# Altium footprint library pin1x3.PcbLib: 3 footprints
Each footprint in its own frame and in the unit in brackets; x right, y up, seen from the top. Pads: shape width x height; smd on the part's side, far side on the other; paste and mask are expansions set on the pad; w line width, h text height; cw(c..) or ccw(c..) is an arc to the next point about the centre after c.
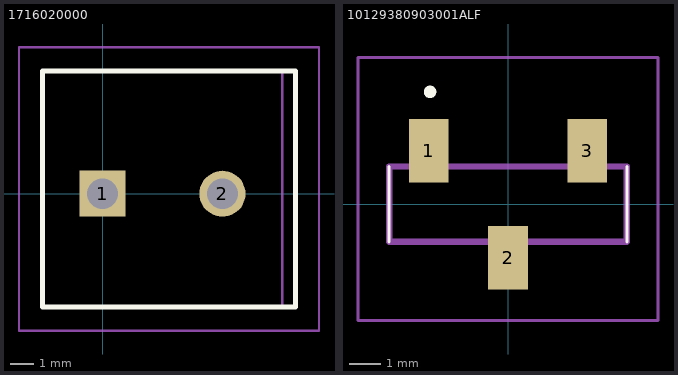
[diagram p0: the footprints below, top view; thin cyan lines are the x and y axes]

## 1716020000 [mm]
pads (2):
  rect 1.95x1.95 hole 1.3: 1(0,0)
  round 1.95 hole 1.3: 2(5.08,0)
Top Overlay:
  lines w0.2: -2.54,-4.8 -2.54,5.2 8.17,5.2 8.17,-4.8 -2.54,-4.8
Mechanical 13:
  lines w0.1: 7.62,-4.8 7.62,5.2 ; -2.54,-4.8 -2.54,5.2 8.17,5.2 8.17,-4.8 -2.54,-4.8
Mechanical 15:
  lines w0.1: -3.54,-5.8 -3.54,6.2 9.17,6.2 9.17,-5.8 -3.54,-5.8
3D body "1716020000.stp": height 13.8, standoff -3.5, extent -2.54,-4.8 8.17,5.2

## 10129380903001ALF [mm]
pads (3):
  rect 1.27x2.03 smd: 1(-2.54,1.715) 2(0,-1.715) 3(2.54,1.715)
Top Overlay:
  lines w0.1: -3.81,-1.205 -3.81,1.205 ; 3.81,-1.205 3.81,1.205
  lines w0.2: -2.5,3.5 cw(c-2.5,3.6) -2.5,3.7 cw(c-2.5,3.6) -2.5,3.5
Mechanical 13:
  lines w0.2: -3.81,-1.205 -3.81,1.205 3.81,1.205 3.81,-1.205 -3.81,-1.205
Mechanical 15:
  lines w0.1: -4.81,-3.73 -4.81,4.7 4.81,4.7 4.81,-3.73 -4.81,-3.73
3D body "10129380-903001ALF.stp": height 9.95, standoff 0, extent -3.81,-2.603 3.81,2.603

## PCBComponent_1 [mil]